# Altium footprint library BA100_CPU_V1.5.1.PcbLib: 26 footprints (part 1 of 2)
Each footprint in its own frame and in the unit in brackets; x right, y up, seen from the top. Pads: shape width x height; smd on the part's side, far side on the other; paste and mask are expansions set on the pad; w line width, h text height; cw(c..) or ccw(c..) is an arc to the next point about the centre after c.
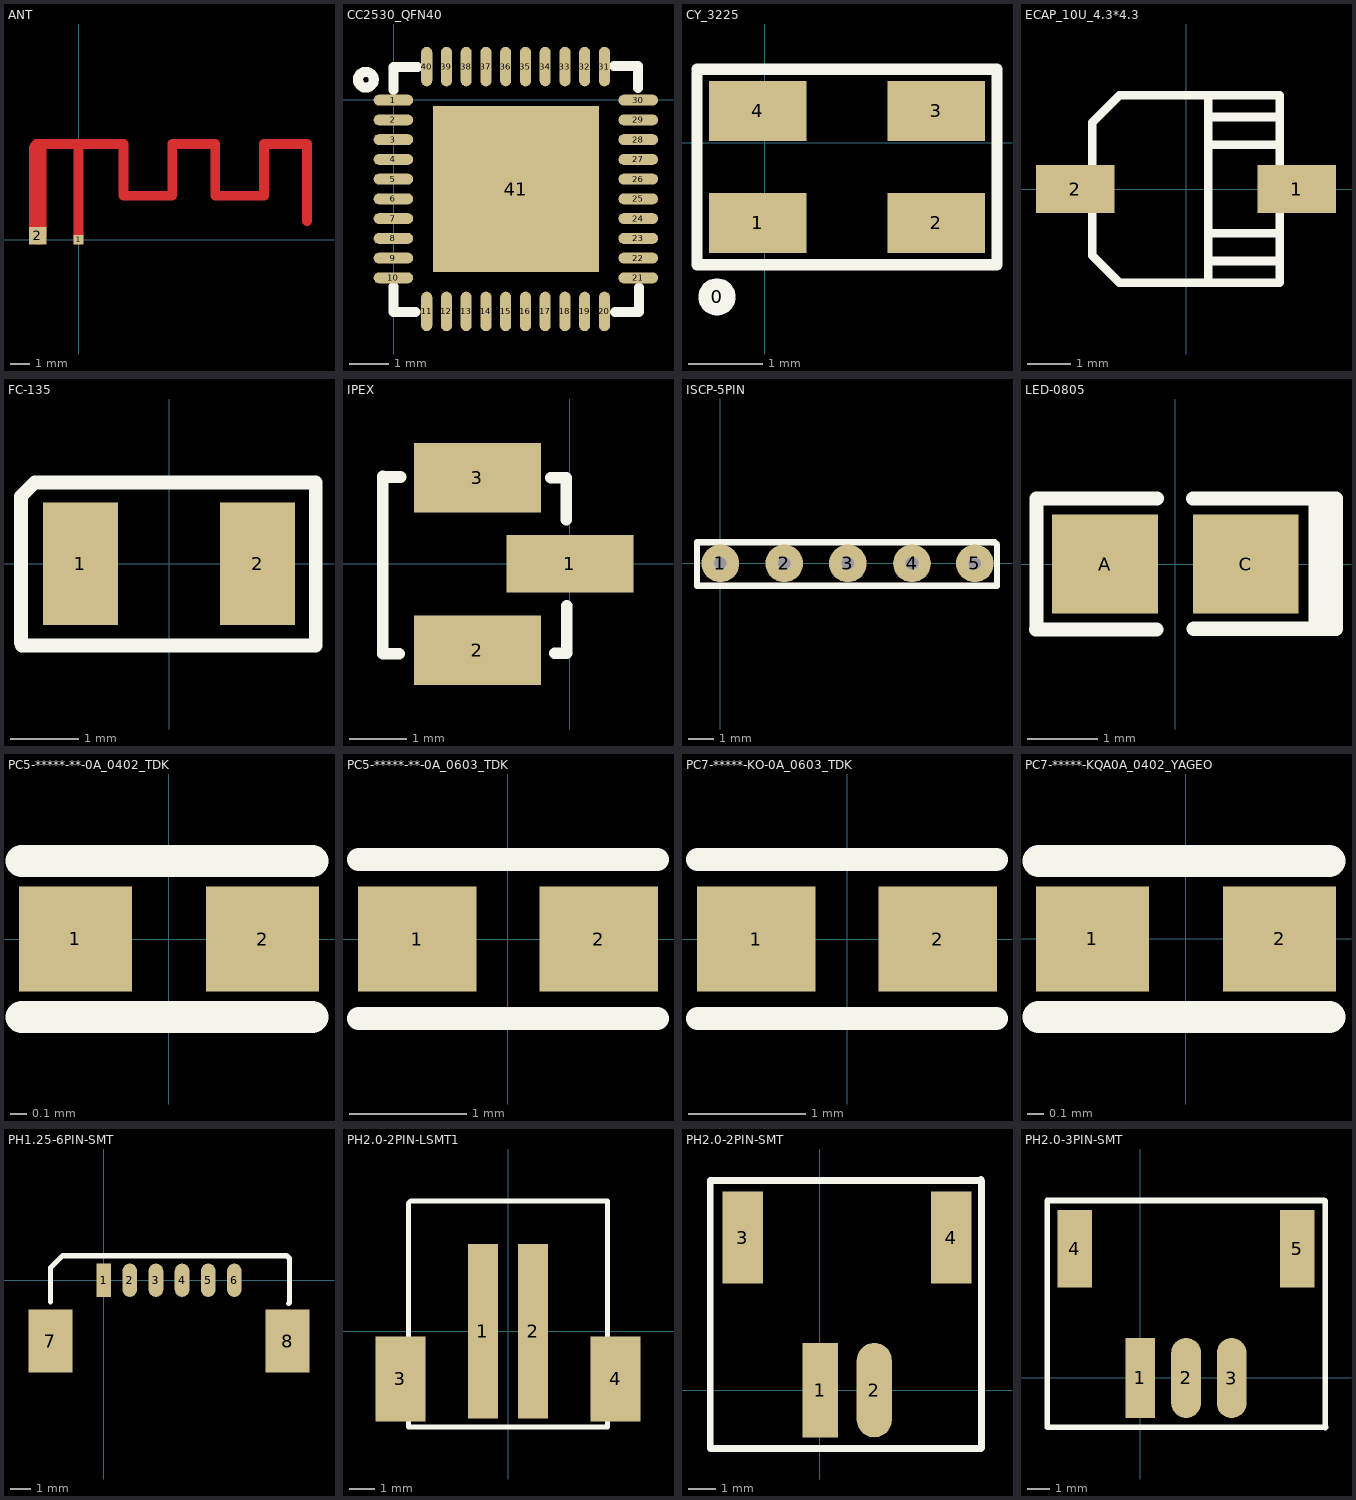
[diagram p0: the footprints below, top view; thin cyan lines are the x and y axes]

## ANT [mm]
pads (2):
  rect 0.5x0.5 smd: 1(0,0)
  rect 0.9x0.9 smd: 2(-2.1,0.2)
Top Layer:
  lines w0.5: -2.26,4.79 -2.21,4.84 -2.15,4.9 0,4.9 ; 0,0 0,4.9 ; 11.7,0.96 11.7,4.9 9.5,4.9 9.5,2.26 7,2.26 7,4.9 4.8,4.9 4.8,2.26 2.3,2.26 2.3,4.9 0,4.9
  lines w0.9: -2.1,0.2 -2.1,4.65
Top Solder:
  rectangle: -3.05,0.29 12.31,5.45

## CC2530_QFN40 [mm]
height 30.4
pads (41):
  oval 1x0.28 smd: 1(-0.011,-0.009) 2(-0.011,-0.509) 3(-0.011,-1.009) 4(-0.011,-1.509) 5(-0.011,-2.009) 6(-0.011,-2.509) 7(-0.011,-3.009) 8(-0.011,-3.509) 9(-0.011,-4.009) 10(-0.011,-4.509) 21(6.189,-4.509) 22(6.189,-4.009) 23(6.189,-3.509) 24(6.189,-3.009) 25(6.189,-2.509) 26(6.189,-2.009) 27(6.189,-1.509) 28(6.189,-1.009) 29(6.189,-0.509) 30(6.189,-0.009)
  oval 0.28x1 smd: 11(0.832,-5.359) 12(1.332,-5.359) 13(1.832,-5.359) 14(2.332,-5.359) 15(2.832,-5.359) 16(3.332,-5.359) 17(3.832,-5.359) 18(4.332,-5.359) 19(4.832,-5.359) 20(5.332,-5.359) 31(5.332,0.841) 32(4.832,0.841) 33(4.332,0.841) 34(3.832,0.841) 35(3.332,0.841) 36(2.832,0.841) 37(2.332,0.841) 38(1.832,0.841) 39(1.332,0.841) 40(0.832,0.841)
  rect 4.2x4.2 smd: 41(3.089,-2.259)
Top Overlay:
  circle w0.254: c-0.708,0.508 r0.2
  lines w0.254: -0.011,-4.734 -0.011,-5.369 0.548,-5.369 ; -0.011,0.245 -0.011,0.829 0.598,0.829 ; 5.577,0.854 6.186,0.854 6.186,0.295 ; 5.602,-5.369 6.212,-5.369 6.212,-4.759

## CY_3225 [mm]
pads (5):
  round 0.5 on Top Overlay: 0(-0.64,-2.06)
  rect 1.3x0.8 smd: 1(-0.095,-1.07) 2(2.293,-1.07) 3(2.293,0.428) 4(-0.095,0.428)
Top Overlay:
  lines w0.152: -0.908,-1.477 -0.908,-1.401 ; -0.908,0.936 -0.908,-1.629 3.004,-1.629 ; -0.908,0.987 3.004,0.987 ; 1.455,0.987 3.106,0.987 3.106,-1.629 2.928,-1.629

## ECAP_10U_4.3*4.3 [mm]
height 5.5
pads (2):
  rect 1.8x1.1 smd: 1(2.54,0) 2(-2.54,0)
Top Overlay:
  lines w0.2: 0.508,-2.15 0.508,2.15 ; 0.508,-1.651 2.15,-1.651 ; 0.508,-1.016 2.15,-1.016 ; 0.508,1.016 2.15,1.016 ; 0.508,1.651 2.15,1.651 ; 1.007,2.15 1.016,2.15 ; -2.15,-1.524 -1.524,-2.15 2.15,-2.15 2.15,2.15 -1.524,2.15 -2.15,1.524 -2.15,-1.524

## FC-135 [mm]
height 1.6
pads (2):
  rect 1.1x1.8 smd: 1(-1.3,0) 2(1.3,0)
Top Overlay:
  lines w0.2: -2.16,-1.2 2.15,-1.2 2.15,1.17 2.13,1.19 ; -2.13,-1.2 -2.17,-1.16 -2.17,0.99 -1.97,1.19 ; -1.93,1.19 2.15,1.19

## IPEX [mm]
pads (3):
  rect 2.2x1 smd: 1(0,0)
  rect 2.2x1.2 smd: 2(-1.6,-1.5) 3(-1.6,1.49)
Top Overlay:
  lines w0.2: -3.24,1.51 -3.24,-1.56 -2.95,-1.56 ; -3.23,1.5 -2.93,1.5 ; -0.33,1.49 -0.06,1.49 -0.06,0.76 ; -0.26,-1.55 -0.05,-1.55 -0.05,-0.73

## ISCP-5PIN [mm]
height 30.4
pads (5):
  round 1.5 hole 0.5: 1(0,0) 2(2.54,0) 3(5.07,0) 4(7.62,0) 5(10.12,0)
Top Overlay:
  lines w0.25: -0.93,-0.89 -0.93,0.84 10.91,0.84 11,0.75 11,-0.89 -0.93,-0.89

## LED-0805 [mm]
pads (2):
  rect 1.5x1.4 smd: A(-1,0) C(1,0)
Top Overlay:
  lines w0.2: -0.27,-0.93 -1.98,-0.93 -1.97,-0.92 -1.97,0.93 -0.26,0.93 ; 0.25,0.93 1.98,0.93 ; 0.26,-0.92 2,-0.92 1.99,-0.91 1.99,0.91 ; 1.72,-0.92 2.28,-0.92 2.28,0.93 ; 1.73,-0.92 2.21,-0.92 ; 1.84,-0.92 1.85,-0.92 ; 1.96,0.93 2.16,0.93 2.16,-0.92 2.15,-0.92 ; 2.11,0.93 2.27,0.93

## PC5-*****-**-0A_0402_TDK [mm] "0402"
height 30.4
pads (2):
  rect 0.7x0.65 smd: 1(-0.58,0) 2(0.58,0)
Top Overlay:
  lines w0.2: -0.912,-0.483 0.888,-0.483 ; -0.912,0.483 0.888,0.483

## PC5-*****-**-0A_0603_TDK [mm] "0603"
pads (2):
  rect 1.016x0.9 smd: 1(-0.775,0) 2(0.776,0)
Top Overlay:
  lines w0.2: -1.275,-0.681 1.276,-0.681 ; -1.275,0.681 1.276,0.681

## PC7-*****-KO-0A_0603_TDK [mm] "0603"
pads (2):
  rect 1.016x0.9 smd: 1(-0.776,0) 2(0.776,0)
Top Overlay:
  lines w0.2: -1.275,-0.681 1.275,-0.681 ; -1.275,0.681 1.275,0.681

## PC7-*****-KQA0A_0402_YAGEO [mm] "0402"
height 30.4
pads (2):
  rect 0.7x0.65 smd: 1(-0.58,0) 2(0.58,0)
Top Overlay:
  lines w0.2: -0.912,-0.483 0.888,-0.483 ; -0.912,0.483 0.888,0.483

## PH1.25-6PIN-SMT [mm]
height 30.4
pads (8):
  rect 0.7x1.6 smd: 1(0,0)
  oval 0.7x1.6 smd: 2(1.25,0) 3(2.5,0) 4(3.75,0) 5(5,0) 6(6.25,0)
  rect 2.1x3 smd: 7(-2.55,-2.91) 8(8.8,-2.91)
Top Overlay:
  lines w0.25: -2.54,-1.03 -2.54,0.6 -1.97,1.17 8.73,1.17 8.74,1.18 8.81,1.11 8.85,1.07 ; 8.85,-1.11 8.89,-1.07 8.89,1.05

## PH2.0-2PIN-LSMT1 [mm]
pads (4):
  rect 1.2x7 smd: 1(-1.005,0) 2(1.005,0)
  rect 2x3.4 smd: 3(-4.318,-1.905) 4(4.318,-1.905)
Top Overlay:
  lines w0.2: 4,-3.84 4,5.24 -3.9,5.24 -4,5.14 -4,-3.83 4,-3.83

## PH2.0-2PIN-SMT [mm]
height 30.4
pads (4):
  rect 1.3x3.5 smd: 1(0.01,0.01)
  oval 1.3x3.5 smd: 2(2.01,0.01)
  rect 1.5x3.4 smd: 3(-2.85,5.65) 4(4.85,5.65)
Top Overlay:
  lines w0.25: -4.06,-2.13 -4.06,7.76 5.92,7.76 5.96,7.8 ; -4.05,-2.15 5.96,-2.15 5.98,-2.13 5.98,7.74 5.97,7.73

## PH2.0-3PIN-SMT [mm]
height 30.4
pads (5):
  rect 1.3x3.5 smd: 1(0,0)
  oval 1.3x3.5 smd: 2(2,0) 3(3.99,-0.01)
  rect 1.5x3.4 smd: 4(-2.86,5.64) 5(6.85,5.64)
Top Overlay:
  lines w0.25: -4.07,-2.14 -4.07,7.75 8.03,7.75 ; -4.06,-2.16 8.1,-2.16 ; 8.08,-2.17 8.08,7.73